# Altium footprint library 28pins_project_V1I1.PcbLib: 26 footprints (part 1 of 2)
Each footprint in its own frame and in the unit in brackets; x right, y up, seen from the top. Pads: shape width x height; smd on the part's side, far side on the other; paste and mask are expansions set on the pad; w line width, h text height; cw(c..) or ccw(c..) is an arc to the next point about the centre after c.
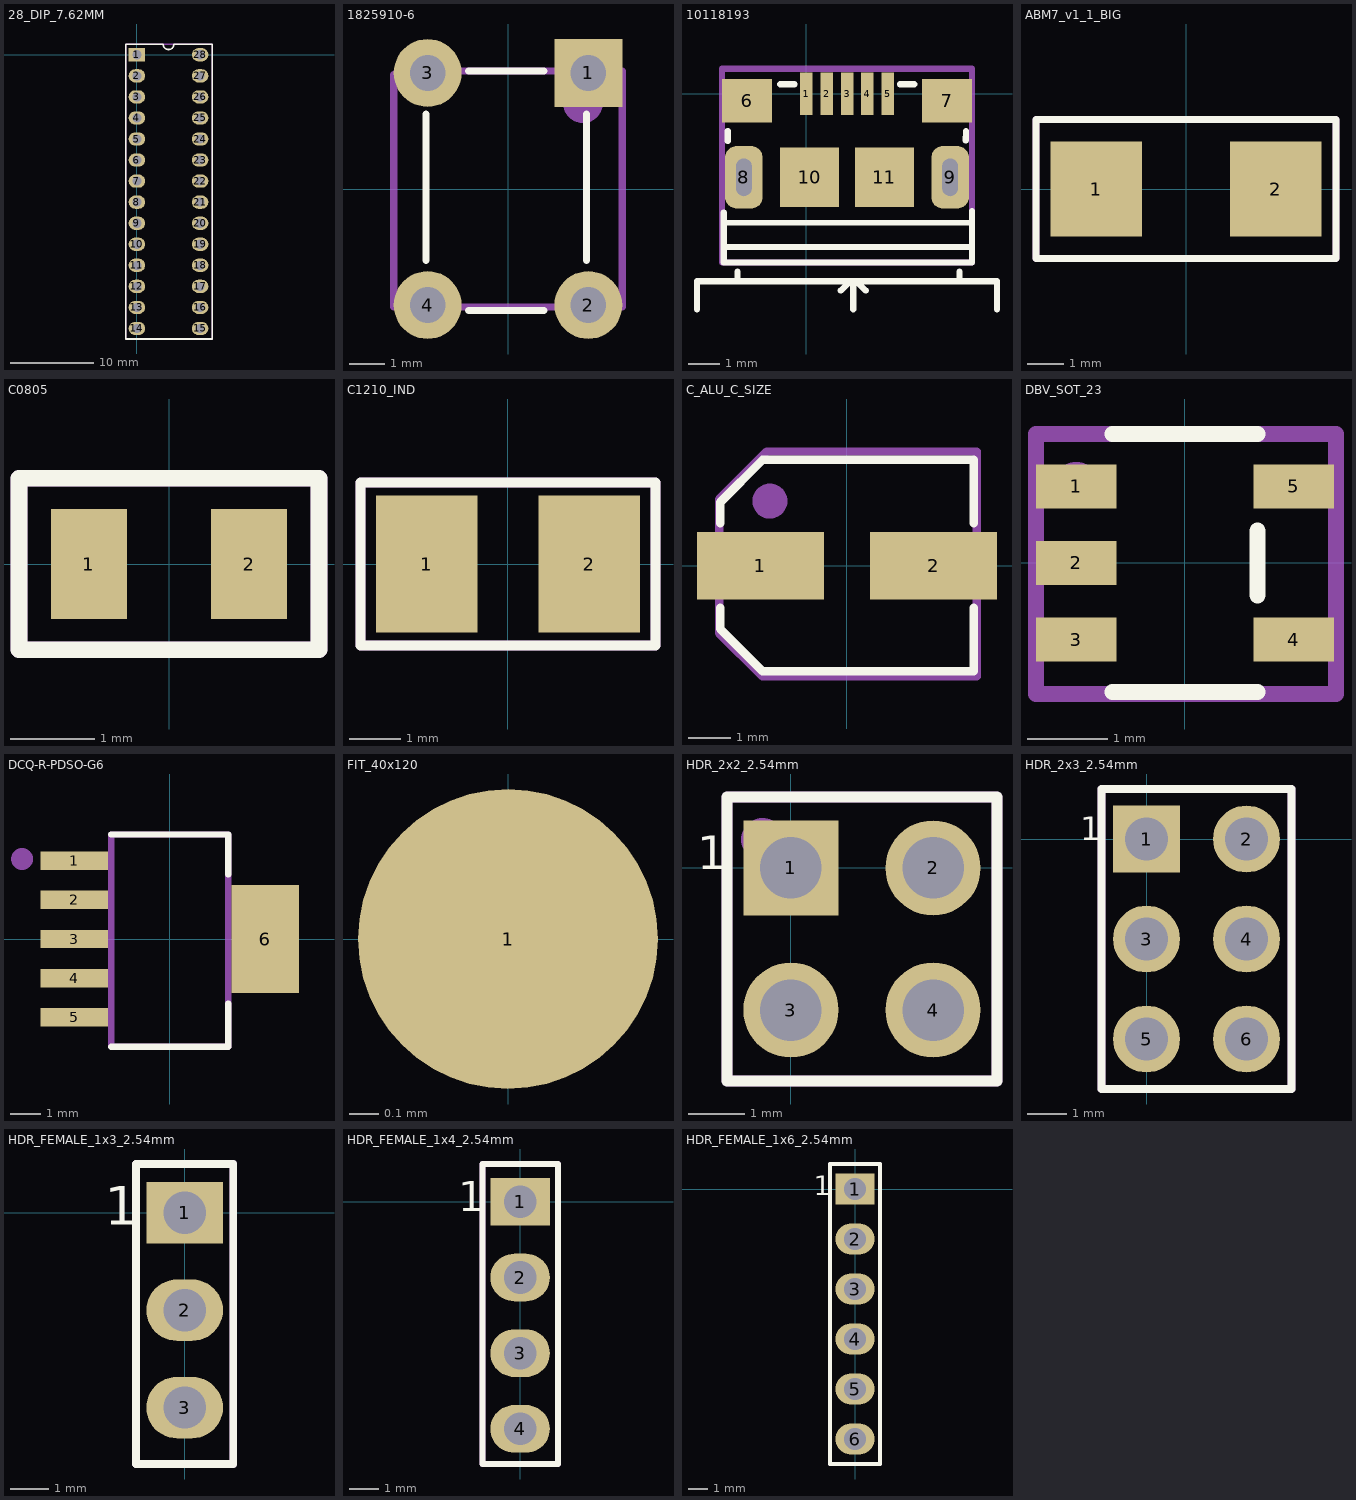
[diagram p0: the footprints below, top view; thin cyan lines are the x and y axes]

## 28_DIP_7.62MM [mm]
pads (28):
  rect 2x1.6 hole 1.1: 1(0,0)
  oval 2x1.6 hole 1.1: 2(0,-2.54) 3(0,-5.08) 4(0,-7.62) 5(0,-10.16) 6(0,-12.7) 7(0,-15.24) 8(0,-17.78) 9(0,-20.32) 10(0,-22.86) 11(0,-25.4) 12(0,-27.94) 13(0,-30.48) 14(0,-33.02) 15(7.62,-33.02) 16(7.62,-30.48) 17(7.62,-27.94) 18(7.62,-25.4) 19(7.62,-22.86) 20(7.62,-20.32) 21(7.62,-17.78) 22(7.62,-15.24) 23(7.62,-12.7) 24(7.62,-10.16) 25(7.62,-7.62) 26(7.62,-5.08) 27(7.62,-2.54) 28(7.62,0)
Top Overlay:
  lines w0.2: -1.365,-34.29 -1.365,-25.5 -1.365,-7.72 -1.365,1.27 3.175,1.27 ccw(c3.81,1.27) 4.445,1.27 9.1,1.27 9.1,-34.29 0,-34.29 -1.365,-34.29
Mechanical 29:
  circle w0.6: c0.01,-0.01 r0.3
  lines w0.2: -1.365,-34.29 -1.365,-25.5 -1.365,-7.72 -1.365,1.27 4.445,1.27 9.1,1.27 9.1,-34.29 0,-34.29 -1.365,-34.29
  text ".Designator" at 4.644,-16.21 h2
3D body "User Library-User Library-ATmega 48_88_168_328 28P3_90DEG.step": height 4.09, standoff -3.03, extent -0.143,-33.735 7.763,0.915

## 28_DIP_7.62MM_SOCKET [mm]
3D body "dil_socket.stp": height 2.8, standoff -4.57, extent -2.332,-32.837 7.768,2.663

## 1825910-6 [mm]
pads (4):
  rect 1.9x1.9 hole 1: 1(2.25,3.25)
  round 1.9 hole 1: 2(2.25,-3.25) 3(-2.25,3.25) 4(-2.25,-3.25)
Top Overlay:
  lines w0.2: -2.3,-2 -2.3,2.1 ; -1.1,-3.4 1,-3.4 ; -1.1,3.3 1,3.3 ; 2.2,-2 2.2,2.1
Mechanical 29:
  circle w0.508: c2.1,2.4 r0.3
  lines w0.2: -3.2,3.2 -3.2,-3.3 3.2,-3.3 3.2,3.3 -3.1,3.3
  text ".Designator" at -0.359,-0.457 h1
3D body "User Library-FSM4JLH(1825910-5).step": height 5.01, standoff -3.5, extent -2.995,-3.898 2.995,3.9

## 10118193 [mm]
pads (11):
  rect 0.4x1.35 smd mask+0.05: 1(0,0) 2(0.65,0) 3(1.3,0) 4(1.95,0) 5(2.6,0)
  rect 1.6x1.4 smd: 6(-1.9,-0.225) 7(4.5,-0.225)
  rrect60% 1.2x2 hole 0.5 slot 1.2 at 90 deg: 8(-2,-2.675) 9(4.6,-2.675)
  rect 1.9x1.9 smd: 10(0.1,-2.675) 11(2.5,-2.675)
Top Overlay:
  lines w0.2: -3.5,-6.9 -3.5,-6 6.1,-6 6.1,-6.9 ; -2.642,-4.902 5.3,-4.9 ; -2.642,-3.8 -2.642,-5.4 5.3,-5.4 5.3,-3.759 ; -2.624,-4.125 5.283,-4.14 ; -2.515,-1.518 -2.515,-1.194 ; -2.2,-5.9 -2.2,-5.7 ; -0.838,0.305 -0.381,0.305 ; 1.1,-6.3 1.4,-6 1.5,-6 ; 1.5,-6.9 1.5,-6 ; 1.7,-6 1.5,-6 ; 1.9,-6.3 1.6,-6 ; 3,0.3 3.454,0.305 ; 4.9,-6 4.9,-5.7 ; 5.1,-1.5 5.105,-1.194 ; 1.5,-6 1.6,-6 ; 1.6,-6 1.55,-6 1.6,-6
Mechanical 29:
  lines w0.2: -2.7,-5.4 -2.7,0.8 5.3,0.8 5.3,-5.4 -2.7,-5.4
  text ".Designator" at -0.45,-2.183 h0.8
3D body "10118193-0001LF--3DModel-STEP-56544.STEP": height 2.86, standoff -0.74, extent -2.63,-5.41 5.23,0.3

## ABM7_v1_1_BIG [mm]
pads (2):
  rect 2.5x2.6 smd: 1(-2.45,0) 2(2.45,0)
Top Overlay:
  lines w0.2: -4.1,-1.9 4.1,-1.9 4.1,1 4.1,1.9 2.5,1.9 -2.4,1.9 -4.1,1.9 -4.1,0.8 -4.1,-1.9
Mechanical 29:
  lines w0.2: -4.1,-1.9 4.1,-1.9 4.1,1.9 -4.1,1.9 -4.1,-1.9
  text ".Designator" at -2.35,-0.05 h0.9
3D body "ABM7.STEP": height 1.41, standoff 0.01, extent -2.997,-1.753 2.997,1.753

## C0805 [mm]
pads (2):
  rect 0.9x1.3 smd: 1(-0.95,0) 2(0.95,0)
Top Overlay:
  lines w0.2: -1.778,-1.016 1.778,-1.016 1.778,1.016 -1.778,1.016 -1.778,-1.016
Mechanical 29:
  lines w0.2: -1.778,-1.016 1.778,-1.016 1.778,1.016 -1.778,1.016 -1.778,-1.016
  text ".Designator" at -0.357,-0.132 h0.6
3D body "c0805c101j5gactu.stp": height 0.86, standoff -0.02, extent -1.125,-0.717 1.079,0.74
3D body "c0805c101j5gactu.stp": height 1.39, standoff 0.51, extent -1.125,-0.717 1.079,0.74

## C1210_IND [mm]
pads (2):
  rect 2x2.7 smd: 1(-1.6,0) 2(1.6,0)
Top Overlay:
  lines w0.2: -2.9,-1.6 -2.9,1.6 2.9,1.6 2.9,-1.6 -2.9,-1.6
Mechanical 29:
  lines w0.2: -2.9,-1.6 -2.9,1.6 2.9,1.6 2.9,-1.6 -2.9,-1.6
  text ".Designator" at -0.9,-0.1 h0.6
3D body: height 2.8, standoff -0.01, extent -1.749,-1.3 -1.349,1.3
3D body: height 2.7, standoff -0.01, extent -1.35,-1.3 1.55,1.3
3D body: height 2.8, standoff -0.01, extent 1.553,-1.305 1.953,1.295

## C_ALU_C_SIZE [mm]
pads (2):
  rect 3x1.6 smd: 1(-2.05,0) 2(2.05,0)
Top Overlay:
  lines w0.2: -3,-1 -3,-1.5 -2,-2.5 3,-2.5 3,-1 ; -3,1 -3,1.25 -3,1.5 -2,2.5 3,2.5 3,1
Mechanical 29:
  circle w0.508: c-1.825,1.525 r0.16
  lines w0.2: -3.025,-1.6 -3.025,1.575 -1.9,2.7 3.075,2.7 3.075,-2.625 -2,-2.625 -3.025,-1.6
  text ".Designator" at -0.15,-0.15 h0.6
3D body "User Library-capacitor size C.step": height 5.42, standoff 0.01, extent -2.825,-2.675 3.075,2.625

## DBV_SOT_23 [mm]
pads (5):
  rect 1x0.55 smd: 1(-1.35,0.95) 2(-1.35,0) 3(-1.35,-0.95) 4(1.35,-0.95) 5(1.35,0.95)
Top Overlay:
  lines w0.2: -0.9,-1.6 0.9,-1.6 ; -0.9,1.6 0.9,1.6 ; 0.9,-0.4 0.9,0.4
Mechanical 29:
  circle w0.508: c-1.35,0.975 r0.025
  lines w0.2: -1.85,-1.625 -1.85,1.6 1.875,1.6 1.875,-1.625 -1.85,-1.625
  text ".Designator" at -0.7,0.025 h0.6
3D body "User Library-TPS79333DBVR.step": height 1.61, standoff -0.01, extent -1.438,-1.525 1.589,1.525

## DCQ-R-PDSO-G6 [mm]
pads (6):
  rect 2.2x0.6 smd: 1(-3.1,2.54) 2(-3.1,1.27) 3(-3.1,0) 4(-3.1,-1.27) 5(-3.1,-2.54)
  rect 2.2x3.5 smd: 6(3.1,0)
Top Overlay:
  lines w0.2: -1.9,-3.5 0.075,-3.5 1.9,-3.5 1.9,-2.1 ; -1.9,3.4 0.075,3.4 1.9,3.4 1.9,2.1
Mechanical 29:
  circle w0.508: c-4.8,2.6 r0.1
  lines w0.2: -1.9,-3.5 1.9,-3.5 1.9,3.4 -1.9,3.4 -1.9,-3.5
  text ".Designator" at -1.37,-0.07 h1.5
3D body "User Library-TPS73701DCQ.step": height 1.71, standoff -0.09, extent -3.859,-3.277 3.401,3.273

## FIT_40x120 [mil]
pads (1):
  round 40 smd paste-40 mask+40: 1(0,0)

## HDR_2x2_2.54mm [mm]
pads (4):
  rect 1.7x1.7 hole 1.1: 1(0,0)
  round 1.7 hole 1.1: 2(2.54,0) 3(0,-2.54) 4(2.54,-2.54)
Top Overlay:
  lines w0.2: 0.635,1.27 3.683,1.27 3.683,-3.81 -1.143,-3.81 -1.143,1.27 1.905,1.27
  text "1" at -1.678,-0.027 h0.6
Mechanical 29:
  circle w0.508: c-0.508,0.508 r0.127
  lines w0.2: -1.143,-3.81 3.683,-3.81 3.683,1.27 -1.143,1.27 -1.143,-3.81
  text ".Designator" at 1.478,-3.456 h0.6
3D body "User Library-1x2 TH Pitch 2_54mm.step": height 9.5, standoff -3.2, extent -1.143,-3.81 1.397,1.27
3D body "User Library-1x2 TH Pitch 2_54mm.step": height 9.5, standoff -3.2, extent 1.143,-3.81 3.683,1.27

## HDR_2x3_2.54mm [mm]
pads (6):
  rect 1.7x1.7 hole 1.1: 1(0,0)
  round 1.7 hole 1.1: 2(2.54,0) 3(0,-2.54) 4(2.54,-2.54) 5(0,-5.08) 6(2.54,-5.08)
Top Overlay:
  lines w0.2: 0.635,1.27 3.683,1.27 3.683,-6.35 -1.143,-6.35 -1.143,1.27 1.905,1.27
  text "1" at -1.678,-0.027 h0.6
Mechanical 29:
  circle w0.508: c-0.381,0.381 r0.127
  lines w0.2: -1.143,-6.35 3.683,-6.35 3.683,1.27 -1.143,1.27 -1.143,-6.35
  text ".Designator" at 1.605,-4.091 h0.6
3D body "User Library-2x3 TH Pitch 2_54mm.STEP": height 9.21, standoff -3.49, extent -1.27,-6.35 3.81,1.27

## HDR_FEMALE_1x3_2.54mm [mm]
pads (3):
  rect 2x1.6 hole 1.1: 1(0,0)
  oval 2x1.6 hole 1.1: 2(0,-2.54) 3(0,-5.08)
Top Overlay:
  lines w0.2: -1.27,-6.55 -1.27,1.27 1.27,1.27 1.27,-6.55 -1.27,-6.55
  text "1" at -2.086,-0.308 h1
Mechanical 29:
  circle w0.508: c0,0 r0.254
  lines w0.2: -1.27,-6.55 1.27,-6.55 1.27,1.27 -1.27,1.27 -1.27,-6.55
  text ".Designator" at 0.558,-6.25 h0.95
3D body "HDR_1x3_White.stp": height 5.47, standoff -6.03, extent -1.235,-6.11 1.175,1.11

## HDR_FEMALE_1x4_2.54mm [mm]
pads (4):
  rect 2x1.6 hole 1.1: 1(0,0)
  oval 2x1.6 hole 1.1: 2(0,-2.54) 3(0,-5.08) 4(0,-7.62)
Top Overlay:
  lines w0.2: -1.27,-8.8 -1.27,1.27 1.27,1.27 1.27,-8.8 -1.27,-8.8
  text "1" at -2.086,-0.308 h1
Mechanical 29:
  circle w0.508: c0,0 r0.254
  lines w0.2: -1.27,-8.8 1.27,-8.8 1.27,1.27 -1.27,1.27 -1.27,-8.8
  text ".Designator" at 0.408,-6.25 h0.95
3D body "HDR_1x4_White.stp": height 5.47, standoff -6.03, extent -1.175,-8.655 1.235,1.105

## HDR_FEMALE_1x6_2.54mm [mm]
pads (6):
  rect 2x1.6 hole 1.1: 1(0,0)
  oval 2x1.6 hole 1.1: 2(0,-2.54) 3(0,-5.08) 4(0,-7.62) 5(0,-10.16) 6(0,-12.7)
Top Overlay:
  lines w0.2: -1.27,-13.97 -1.27,1.27 1.27,1.27 1.27,-13.97 -1.27,-13.97
  text "1" at -2.086,-0.308 h1
Mechanical 29:
  circle w0.508: c0,0 r0.254
  lines w0.2: -1.27,-13.97 1.27,-13.97 1.27,1.27 -1.27,1.27 -1.27,-13.97
  text ".Designator" at 0.246,-10.722 h0.95
3D body "m20-7820646_asm.stp": height 8.31, standoff -3.19, extent -1.23,-14.17 1.27,1.47